# Altium footprint library EISI.PcbLib: 695 footprints (part 20 of 44)
Each footprint in its own frame and in the unit in brackets; x right, y up, seen from the top. Pads: shape width x height; smd on the part's side, far side on the other; paste and mask are expansions set on the pad; w line width, h text height; cw(c..) or ccw(c..) is an arc to the next point about the centre after c.
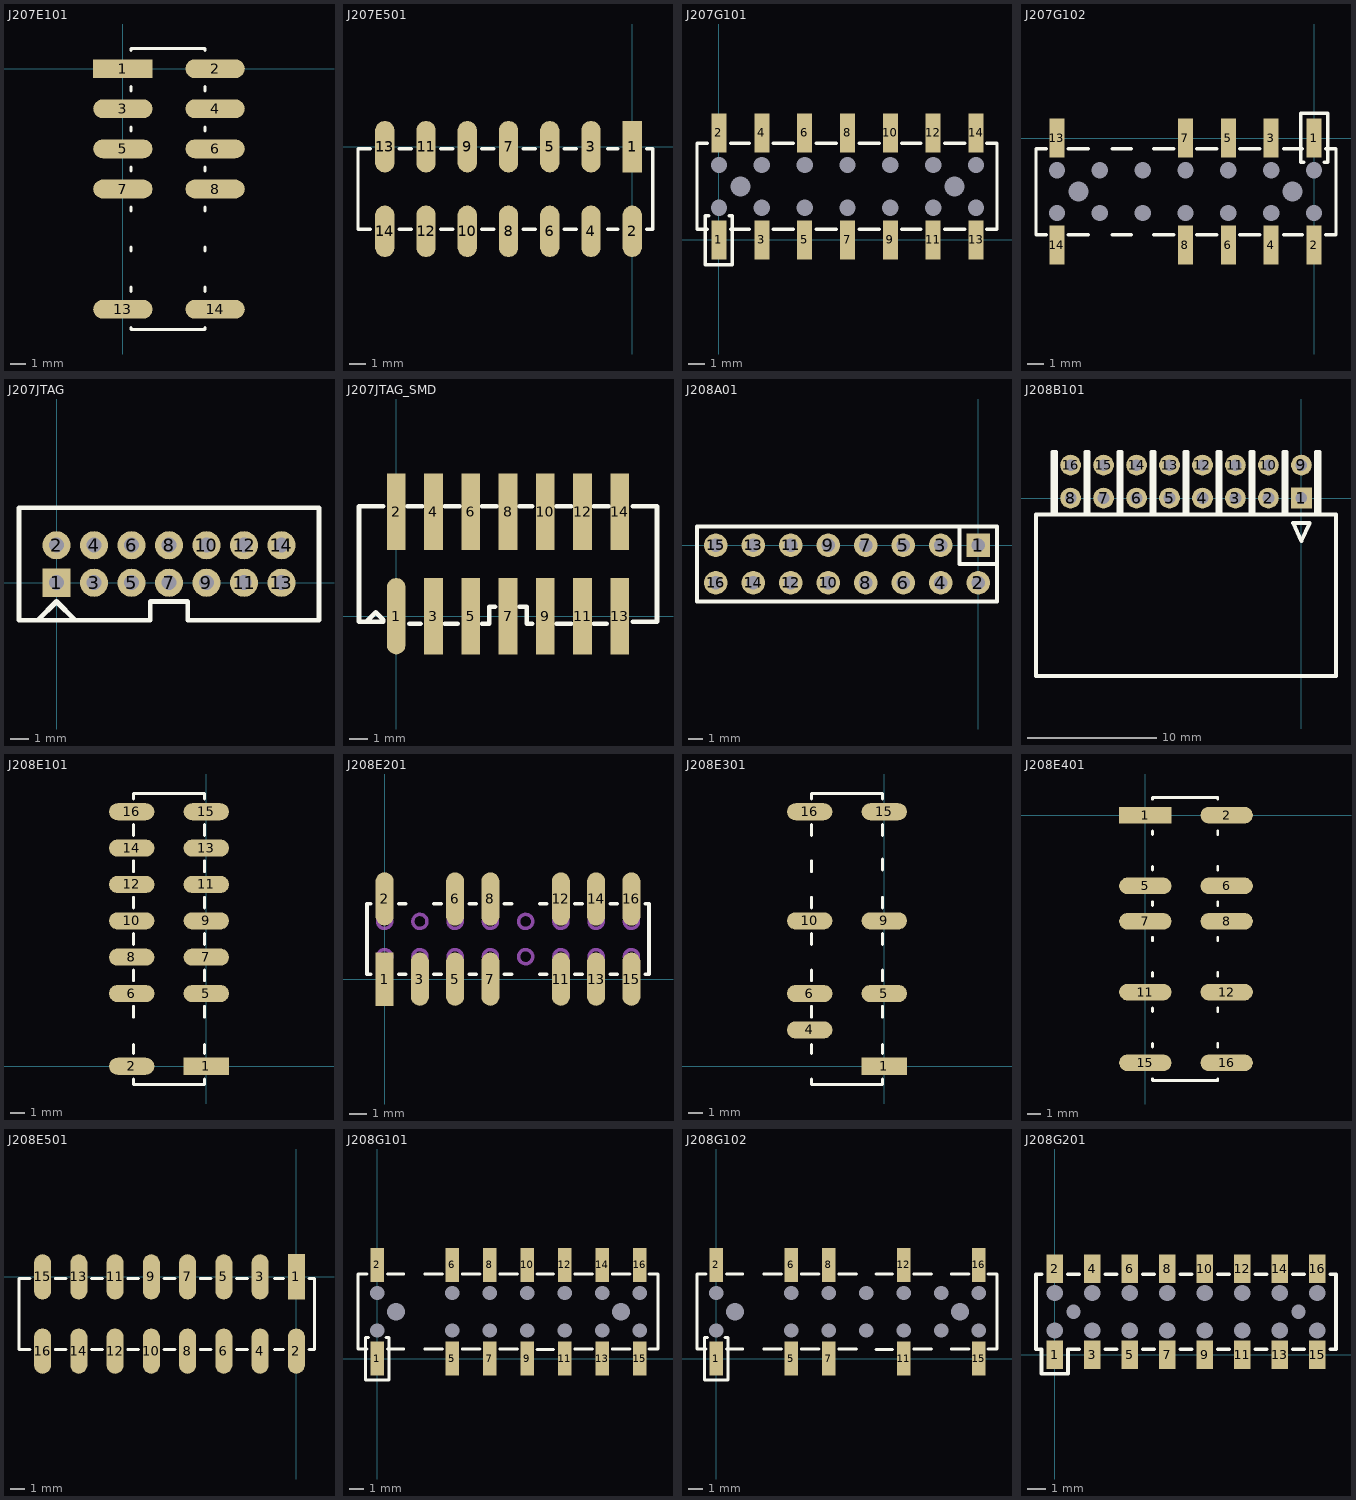
[diagram p19: the footprints below, top view; thin cyan lines are the x and y axes]

## J207E101 [mil]
pads (10):
  rect 148x47 smd: 1(0,0)
  oval 148x47 smd: 2(230,0) 3(0,-100) 4(230,-100) 5(0,-200) 6(230,-200) 7(0,-300) 8(230,-300) 13(0,-600) 14(230,-600)
TopOverlay:
  lines w7.87: 20,-645 20,-650 205,-650 205,-645 ; 20,-555 20,-545 20,-550 ; 20,-455 20,-445 20,-450 ; 20,-355 20,-345 20,-350 ; 20,-255 20,-245 20,-250 ; 20,-155 20,-145 20,-150 ; 20,-55 20,-45 ; 20,45 20,50 205,50 205,45 ; 205,-555 205,-545 205,-550 ; 205,-455 205,-445 205,-450 ; 205,-355 205,-345 205,-350 ; 205,-255 205,-245 205,-250 ; 205,-155 205,-145 205,-150 ; 205,-55 205,-45

## J207E501 [mil] "Connecteur 2x7 SMD pas 2.54mm"
pads (14):
  rect 47.01x125 smd: 1(0,0)
  oval 47.01x125 smd: 2(0,-205) 3(-100,0)
  oval 47x125 smd: 4(-100,-205) 5(-200,0) 6(-200,-205) 7(-300,0) 8(-300,-205) 9(-400,0) 10(-400,-205) 11(-500,0) 12(-500,-205) 13(-600,0) 14(-600,-205)
TopOverlay:
  lines w7.87: -665,-7.09 -665,-200 -635,-200 ; -665,-5 -635,-5 ; -565,-200 -535,-200 ; -565,-5 -535,-5 ; -465,-200 -435,-200 ; -465,-5 -435,-5 ; -365,-200 -335,-200 ; -365,-5 -335,-5 ; -265,-200 -235,-200 ; -265,-5 -235,-5 ; -165,-200 -135,-200 ; -165,-5 -135,-5 ; -60,-200 -35,-200 ; -60,-5 -35,-5 ; 35,-200 50,-200 50,-5 35,-5

## J207G101 [mil]
pads (30):
  rect 35x91 smd: 1(0,0) 2(0,250) 3(100,0) 4(100,250) 5(200,0) 6(200,250) 7(300,0) 8(300,250) 9(400,0) 10(400,250) 11(500,0) 12(500,250) 13(600,0) 14(600,250)
  round 12 hole 38: ""(0,75) ""(0,175) ""(100,75) ""(100,175) ""(200,75) ""(200,175) ""(300,75) ""(300,175) ""(400,75) ""(400,175) ""(500,75) ""(500,175) ""(600,75) ""(600,175)
  round 12 hole 47: ""(50,125) ""(550,125)
TopOverlay:
  lines w7.87: -27.56,25 -51.18,25 -51.18,225.79 -27.56,225.79 ; -23.62,56.5 -31.5,56.5 -31.5,25 -31.5,-57.68 27.56,-57.68 31.5,-57.68 31.5,52.56 31.5,56.5 23.62,56.5 ; 27.56,25 70.87,25 ; 27.56,225.79 70.87,225.79 ; 126.77,25 174.01,25 ; 126.77,225.79 174.01,225.79 ; 226.77,25 274.01,25 ; 226.77,225.79 274.01,225.79 ; 426.18,24.61 470.47,24.61 ; 426.18,225.39 470.47,225.39 ; 526.77,25 574.01,25 ; 526.77,225.79 574.01,225.79 ; 625.2,25 648.82,25 648.82,225.79 625.2,225.79 ; 326.77,25 374.01,25 326.77,25 ; 326.77,225.79 374.01,225.79 326.77,225.79

## J207G102 [mil]
pads (26):
  rect 35x91 smd: 1(0,0) 2(0,-250) 3(-100,0) 4(-100,-250) 5(-200,0) 6(-200,-250) 7(-300,0) 8(-300,-250) 13(-600,0) 14(-600,-250)
  round 12 hole 38: ""(-600,-175) ""(-600,-75) ""(-500,-175) ""(-500,-75) ""(-400,-175) ""(-400,-75) ""(-300,-175) ""(-300,-75) ""(-200,-175) ""(-200,-75) ""(-100,-175) ""(-100,-75) ""(0,-175) ""(0,-75)
  round 12 hole 47: ""(-550,-125) ""(-50,-125)
TopOverlay:
  lines w7.87: -625.2,-225.79 -648.82,-225.79 -648.82,-25 -625.2,-25 ; -574.01,-225.79 -526.77,-225.79 ; -574.01,-25 -526.77,-25 ; -470.47,-225.39 -426.18,-225.39 ; -470.47,-24.61 -426.18,-24.61 ; -274.01,-225.79 -226.77,-225.79 ; -274.01,-25 -226.77,-25 ; -174.01,-225.79 -126.77,-225.79 ; -174.01,-25 -126.77,-25 ; -70.87,-225.79 -27.56,-225.79 ; -70.87,-25 -27.56,-25 ; -23.62,-56.5 -31.5,-56.5 -31.5,-52.56 -31.5,57.68 -27.56,57.68 31.5,57.68 31.5,-25 31.5,-56.5 23.62,-56.5 ; 27.56,-225.79 51.18,-225.79 51.18,-25 27.56,-25 ; -374.01,-225.79 -326.77,-225.79 -374.01,-225.79 ; -374.01,-25 -326.77,-25 -374.01,-25

## J207JTAG [mm] "Connecteur 2x7 pas 2mm pour JTAG cable Xilinx USB"
height 5.9
pads (14):
  rect 1.5x1.5 hole 0.8: 1(0,0)
  round 1.5 hole 0.8: 2(0,2) 3(2,0) 4(2,2) 5(4,0) 6(4,2) 7(6,0) 8(6,2) 9(8,0) 10(8,2) 11(10,0) 12(10,2) 13(12,0) 14(12,2)
TopOverlay:
  lines w0.254: -1,-2 0,-1 1,-2 ; -2,-2 -2,4 14,4 14,-2 7,-2 7,-1 5,-1 5,-2 -2,-2

## J207JTAG_SMD [mm] "Connecteur 2x7 pôles pour JTAG cable Xilinx USB"
height 6.7
pads (14):
  oval 1x4.1 smd: 1(0,0)
  rect 1x4.1 smd: 2(0,5.6) 3(2,0) 4(2,5.6) 5(4,0) 6(4,5.6) 7(6,0) 8(6,5.6) 9(8,0) 10(8,5.6) 11(10,0) 12(10,5.6) 13(12,0) 14(12,5.6)
TopOverlay:
  lines w0.254: -1.6,-0.3 -1.1,0.2 -0.7,-0.2 -0.7,-0.3 -2,-0.3 -2,5.9 -0.7,5.9 ; 0.6,5.9 1.4,5.9 ; 0.7,-0.4 1.3,-0.4 ; 2.6,-0.4 3.3,-0.4 ; 2.6,5.9 3.4,5.9 ; 4.6,-0.4 5,-0.4 5,0.5 5.3,0.5 ; 4.6,5.9 5.4,5.9 ; 6.6,0.5 7,0.5 7,-0.4 7.3,-0.4 ; 6.6,5.9 7.3,5.9 ; 8.6,-0.4 9.4,-0.4 ; 8.6,5.9 9.4,5.9 ; 10.6,-0.4 11.3,-0.4 ; 10.6,5.9 11.4,5.9 ; 12.7,-0.3 14,-0.3 14,5.9 12.7,5.9

## J208A01 [mm]
pads (16):
  rect 1.6x1.6 hole 0.9: 1(0,0)
  round 1.6 hole 0.9: 2(0,-2.54) 3(-2.54,0) 4(-2.54,-2.54) 5(-5.08,0) 6(-5.08,-2.54) 7(-7.62,0) 8(-7.62,-2.54) 9(-10.16,0) 10(-10.16,-2.54) 11(-12.7,0) 12(-12.7,-2.54) 13(-15.24,0) 14(-15.24,-2.54) 15(-17.78,0) 16(-17.78,-2.54)
TopOverlay:
  lines w0.254: -1.27,1.27 -1.27,-1.27 1.27,-1.27 ; -19.05,-3.81 -19.05,1.27 1.27,1.27 1.27,-3.81 -19.05,-3.81

## J208B101 [mm]
pads (16):
  rect 1.6x1.6 hole 0.9: 1(0,0)
  round 1.6 hole 0.9: 2(-2.54,0) 3(-5.08,0) 4(-7.62,0) 5(-10.16,0) 6(-12.7,0) 7(-15.24,0) 8(-17.78,0) 9(0,2.54) 10(-2.54,2.54) 11(-5.08,2.54) 12(-7.62,2.54) 13(-10.16,2.54) 14(-12.7,2.54) 15(-15.24,2.54) 16(-17.78,2.54)
TopOverlay:
  lines w0.305: -19.177,-1.27 -19.177,3.556 -18.923,3.556 -18.923,-1.27 ; -16.637,-1.27 -16.637,3.556 -16.383,3.556 -16.383,-1.27 ; -14.097,-1.27 -14.097,3.556 -13.843,3.556 -13.843,-1.27 ; -11.557,-1.27 -11.557,3.556 -11.303,3.556 -11.303,-1.27 ; -9.017,-1.27 -9.017,3.556 -8.763,3.556 -8.763,-1.27 ; -6.477,-1.27 -6.477,3.556 -6.223,3.556 -6.223,-1.27 ; -3.937,-1.27 -3.937,3.556 -3.683,3.556 -3.683,-1.27 ; -1.397,-1.27 -1.397,3.556 -1.143,3.556 -1.143,-1.27 ; 1.143,-1.27 1.143,3.556 1.397,3.556 1.397,-1.27 ; -20.447,-13.716 -20.447,-1.27 2.667,-1.27 2.667,-13.716 -20.447,-13.716 ; -0.635,-1.905 0,-3.302 0.635,-1.905 -0.635,-1.905

## J208E101 [mil]
pads (14):
  rect 125x47 smd: 1(0,0)
  oval 125x47 smd: 2(-205,0) 5(0,200) 6(-205,200) 7(0,300) 8(-205,300) 9(0,400) 10(-205,400) 11(0,500) 12(-205,500) 13(0,600) 14(-205,600) 15(0,700) 16(-205,700)
TopOverlay:
  lines w7.87: -200,-35 -200,-50 -5,-50 -5,-35 ; -200,35 -200,60 ; -200,135 -200,165 ; -200,235 -200,265 ; -200,335 -200,365 ; -200,435 -200,465 ; -200,535 -200,565 ; -200,635 -200,665 ; -200,735 -200,750 -5,750 -5,735 ; -5,35 -5,60 ; -5,135 -5,165 ; -5,235 -5,265 ; -5,335 -5,365 ; -5,435 -5,465 ; -5,535 -5,565 ; -5,635 -5,665

## J208E201 [mm]
pads (13):
  rect 1.02x3.02 smd: 1(0,0)
  oval 1.02x3.02 smd: 2(0,4.557) 3(2,0) 5(4,0) 6(4,4.55) 7(6,0) 8(6,4.55) 11(10,0) 12(10,4.55) 13(12,0) 14(12,4.55) 15(14,0) 16(14,4.55)
TopOverlay:
  lines w0.2: -0.8,0.275 -1,0.275 -1,4.275 -0.8,4.275 ; 0.8,0.275 1.2,0.275 ; 0.8,4.275 1.2,4.275 ; 2.8,0.275 3.2,0.275 ; 2.8,4.275 3.2,4.275 ; 4.8,0.275 5.2,0.275 ; 4.8,4.275 5.2,4.275 ; 6.8,0.275 7.2,0.275 ; 6.8,4.275 7.2,4.275 ; 8.8,0.275 9.2,0.275 ; 8.8,4.275 9.2,4.275 ; 10.8,0.275 11.2,0.275 ; 10.8,4.275 11.2,4.275 ; 12.8,0.275 13.2,0.275 ; 12.8,4.275 13.2,4.275 ; 14.8,0.275 15,0.275 15,4.275 14.8,4.275
Mechanical4:
  circle w0.2: c0,1.275 r0.4
  circle w0.2: c2,1.275 r0.4
  circle w0.2: c2,3.275 r0.4
  circle w0.2: c4,1.275 r0.4
  circle w0.2: c4,3.275 r0.4
  circle w0.2: c6,3.275 r0.4
  circle w0.2: c6,1.275 r0.4
  circle w0.2: c8,1.275 r0.4
  circle w0.2: c8,3.275 r0.4
  circle w0.2: c10,3.275 r0.4
  circle w0.2: c10,1.275 r0.4
  circle w0.2: c12,3.275 r0.4
  circle w0.2: c12,1.275 r0.4
  circle w0.2: c14,1.275 r0.4
  circle w0.2: c14,3.275 r0.4
  circle w0.2: c0,3.275 r0.4

## J208E301 [mil]
pads (8):
  rect 125x47 smd: 1(0,0)
  oval 125x47 smd: 4(-205,100) 5(0,200) 6(-205,200) 9(0,400) 10(-205,400) 15(0,700) 16(-205,700)
TopOverlay:
  lines w7.87: -200,-35 -200,-50 -5,-50 -5,-40 -5,-35 ; -200,35 -200,60 ; -200,135 -200,165 ; -200,235 -200,265 ; -200,335 -200,365 ; -200,435 -200,465 ; -200,535 -200,565 ; -200,635 -200,665 ; -200,735 -200,750 -5,750 -5,735 ; -5,35 -5,60 ; -5,135 -5,165 ; -5,235 -5,265 ; -5,335 -5,365 ; -5,435 -5,465 ; -5,540 -5,570 ; -5,635 -5,665

## J208E401 [mil]
pads (10):
  rect 148x47 smd: 1(0,0)
  oval 148x47 smd: 2(230,0) 5(0,-200) 6(230,-200) 7(0,-300) 8(230,-300) 11(0,-500) 12(230,-500) 15(0,-700) 16(230,-700)
TopOverlay:
  lines w7.87: 20,-745 20,-750 205,-750 205,-745 ; 20,-655 20,-645 ; 20,-555 20,-545 20,-550 ; 20,-455 20,-445 20,-450 ; 20,-355 20,-345 20,-350 ; 20,-255 20,-245 20,-250 ; 20,-155 20,-145 20,-150 ; 20,-55 20,-45 ; 20,45 20,50 205,50 205,45 ; 205,-655 205,-645 ; 205,-555 205,-545 205,-550 ; 205,-455 205,-445 205,-450 ; 205,-355 205,-345 205,-350 ; 205,-255 205,-245 205,-250 ; 205,-155 205,-145 205,-150 ; 205,-55 205,-45

## J208E501 [mil] "Connecteur 2x8 SMD pas 2.54mm"
pads (16):
  rect 47.01x125 smd: 1(0,0)
  oval 47.01x125 smd: 2(0,-205) 3(-100,0)
  oval 47x125 smd: 4(-100,-205) 5(-200,0) 6(-200,-205) 7(-300,0) 8(-300,-205) 9(-400,0) 10(-400,-205) 11(-500,0) 12(-500,-205) 13(-600,0) 14(-600,-205) 15(-700,0) 16(-700,-205)
TopOverlay:
  lines w7.87: -765,-7.09 -765,-200 -735,-200 ; -765,-5 -735,-5 ; -665,-200 -635,-200 ; -665,-5 -635,-5 ; -565,-200 -535,-200 ; -565,-5 -535,-5 ; -465,-200 -435,-200 ; -465,-5 -435,-5 ; -365,-200 -335,-200 ; -365,-5 -335,-5 ; -265,-200 -235,-200 ; -265,-5 -235,-5 ; -165,-200 -135,-200 ; -165,-5 -135,-5 ; -60,-200 -35,-200 ; -60,-5 -35,-5 ; 35,-200 50,-200 50,-5 35,-5

## J208G101 [mil]
pads (30):
  rect 35x91 smd: 1(0,0) 2(0,250) 5(200,0) 6(200,250) 7(300,0) 8(300,250) 9(400,0) 10(400,250) 11(500,0) 12(500,250) 13(600,0) 14(600,250) 15(700,0) 16(700,250)
  round 12 hole 38: ""(0,75) ""(0,175) ""(200,75) ""(200,175) ""(300,75) ""(300,175) ""(400,75) ""(400,175) ""(500,75) ""(500,175) ""(600,75) ""(600,175) ""(700,75) ""(700,175)
  round 12 hole 47: ""(50,125) ""(650,125)
TopOverlay:
  lines w7.87: -27.56,25 -51.18,25 -51.18,225.79 -27.56,225.79 ; -23.62,56.5 -31.5,56.5 -31.5,25 -31.5,-57.68 27.56,-57.68 31.5,-57.68 31.5,52.56 31.5,56.5 23.62,56.5 ; 27.56,25 70.87,25 ; 27.56,225.79 70.87,225.79 ; 126.77,25 174.01,25 ; 126.77,225.79 174.01,225.79 ; 226.77,25 274.01,25 ; 226.77,225.79 274.01,225.79 ; 426.18,24.61 470.47,24.61 ; 426.18,225.39 470.47,225.39 ; 526.77,25 574.01,25 ; 526.77,225.79 574.01,225.79 ; 725.2,25 748.82,25 748.82,225.79 725.2,225.79 ; 326.77,25 374.01,25 326.77,25 ; 326.77,225.79 374.01,225.79 326.77,225.79 ; 626.77,25 674.01,25 626.77,25 ; 626.77,225.79 674.01,225.79 626.77,225.79

## J208G102 [mil]
pads (26):
  rect 35x91 smd: 1(0,0) 2(0,250) 5(200,0) 6(200,250) 7(300,0) 8(300,250) 11(500,0) 12(500,250) 15(700,0) 16(700,250)
  round 12 hole 38: ""(0,75) ""(0,175) ""(200,75) ""(200,175) ""(300,75) ""(300,175) ""(400,75) ""(400,175) ""(500,75) ""(500,175) ""(600,75) ""(600,175) ""(700,75) ""(700,175)
  round 12 hole 47: ""(50,125) ""(650,125)
TopOverlay:
  lines w7.87: -27.56,25 -51.18,25 -51.18,225.79 -27.56,225.79 ; -23.62,56.5 -31.5,56.5 -31.5,25 -31.5,-57.68 27.56,-57.68 31.5,-57.68 31.5,52.56 31.5,56.5 23.62,56.5 ; 27.56,25 70.87,25 ; 27.56,225.79 70.87,225.79 ; 126.77,25 174.01,25 ; 126.77,225.79 174.01,225.79 ; 226.77,25 274.01,25 ; 226.77,225.79 274.01,225.79 ; 426.18,24.61 470.47,24.61 ; 426.18,225.39 470.47,225.39 ; 526.77,25 574.01,25 ; 526.77,225.79 574.01,225.79 ; 725.2,25 748.82,25 748.82,225.79 725.2,225.79 ; 326.77,25 374.01,25 326.77,25 ; 326.77,225.79 374.01,225.79 326.77,225.79 ; 626.77,25 674.01,25 626.77,25 ; 626.77,225.79 674.01,225.79 626.77,225.79

## J208G201 [mil]
pads (34):
  rect 35x60 smd: 1(0,0) 2(0,181.1) 3(78.74,0) 4(78.74,181.1) 5(157.48,0) 6(157.48,181.1) 7(236.22,0) 8(236.22,181.1) 9(314.96,0) 10(314.96,181.1) 11(393.7,0) 12(393.7,181.1) 13(472.44,0) 14(472.44,181.1) 15(551.18,0) 16(551.18,181.1)
  round 12 hole 33.86: ""(0,51.18) ""(0,129.92) ""(78.74,51.18) ""(78.74,129.92) ""(157.48,51.18) ""(157.48,129.92) ""(236.22,51.18) ""(236.22,129.92) ""(314.96,51.18) ""(314.96,129.92) ""(393.7,51.18) ""(393.7,129.92) ""(472.44,51.18) ""(472.44,129.92) ""(551.18,51.18) ""(551.18,129.92)
  round 12 hole 29.92: ""(39.37,90.55) ""(511.81,90.55)
TopOverlay:
  lines w7.87: -27.56,169.29 -39.37,169.29 -39.37,11.81 -27.56,11.81 -27.56,-39.37 27.56,-39.37 27.56,-15.75 27.56,11.81 51.18,11.81 ; 27.56,169.29 51.18,169.29 ; 106.3,11.81 129.92,11.81 ; 106.3,169.29 129.92,169.29 ; 185.04,11.81 208.66,11.81 ; 185.04,169.29 208.66,169.29 ; 263.78,11.81 287.4,11.81 ; 263.78,169.29 287.4,169.29 ; 342.52,11.81 366.14,11.81 ; 342.52,169.29 366.14,169.29 ; 421.26,11.81 444.88,11.81 ; 421.26,169.29 444.88,169.29 ; 500,11.81 523.62,11.81 ; 500,169.29 523.62,169.29 ; 578.74,11.81 590.55,11.81 590.55,169.29 578.74,169.29